# EAGLE library part WE-D-SUB_SMD90_244117113 (library WE-D-SUB)
WE-D-SUB Filter Bent 90° SMT Characteristics Standard type filtered with 1000 pF High attenuation of more than 40 dB @ 180 MHz Low size: 6.3 mm Rated voltage: 125 VDC Rated current @ 20 ºC: 5 A Withstand voltage: 250 VRMS Insulation resistance: min. 1000 MΩ Operating temperature: –55 ºC to +125 ºC Applications Filtering of interfaces External connection to -printer -sensor -display <https://katalog.we-online.de/media/images/v2/o14706v209%20Family_240117113_240617113.jpg> Details see: https://katalog.we-online.de/en/pbs/D-SUB-FILTER-BENT90-SMD Updated by Ella Wu 2019-09-10 2019(C) Wurth Elektronik
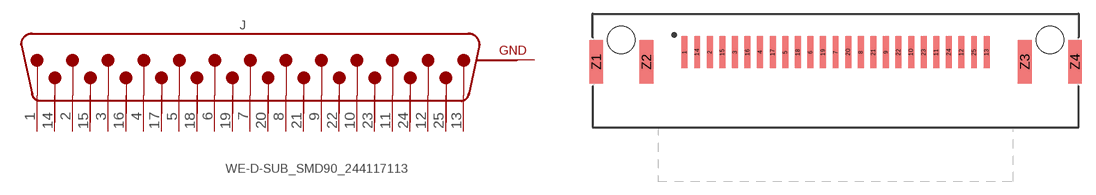
[diagram p30: symbol with the pads of WE-D-SUB_SMD90_244117113; footprint WE-D-SUB_SMD90_244117113]

Designator prefix J

## WE-D-SUB_SMD90_244117113 (DATASHEET-URL: https://katalog.we-online.de/pbs/datasheet/244117113.pdf; MOUNT: SMT; PART-NUMBER: 244117113; POLES: 25; TYPE: Male)  [WE-D-SUB_SMD90_244117113]
1  1  pas
2  2  pas
3  3  pas
4  4  pas
5  5  pas
6  6  pas
7  7  pas
8  8  pas
9  9  pas
10  10  pas
11  11  pas
12  12  pas
13  13  pas
14  14  pas
15  15  pas
16  16  pas
17  17  pas
18  18  pas
19  19  pas
20  20  pas
21  21  pas
22  22  pas
23  23  pas
24  24  pas
25  25  pas
Z1  GND  pwr
Z2  GND  pwr
Z3  GND  pwr
Z4  GND  pwr

## Footprint WE-D-SUB_SMD90_244117113 (pad centres in mm)
WE-D-SUB Filter Bent 90° SMT 25 Poles , Male
smd 0.65 x 3.5: 1 -16.56,-1.35; 2 -13.8,-1.35; 3 -11.04,-1.35; 4 -8.28,-1.35; 5 -5.52,-1.35; 6 -2.76,-1.35; 7 0,-1.35; 8 2.76,-1.35; 9 5.52,-1.35; 10 8.28,-1.35; 11 11.04,-1.35; 12 13.8,-1.35; 13 16.56,-1.35; 14 -15.18,-1.35; 15 -12.42,-1.35; 16 -9.66,-1.35; 17 -6.9,-1.35; 18 -4.14,-1.35; 19 -1.38,-1.35; 20 1.38,-1.35; 21 4.14,-1.35; 22 6.9,-1.35; 23 9.66,-1.35; 24 12.42,-1.35; 25 15.18,-1.35
smd 1.5 x 4.8: Z1 -26.25,-2.4; Z2 -20.75,-2.4; Z3 20.75,-2.4; Z4 26.25,-2.4
hole 3 at -23.5,0
hole 3 at 23.5,0